# Altium footprint library Common.PcbLib: 15 footprints
Each footprint in its own frame and in the unit in brackets; x right, y up, seen from the top. Pads: shape width x height; smd on the part's side, far side on the other; paste and mask are expansions set on the pad; w line width, h text height; cw(c..) or ccw(c..) is an arc to the next point about the centre after c.
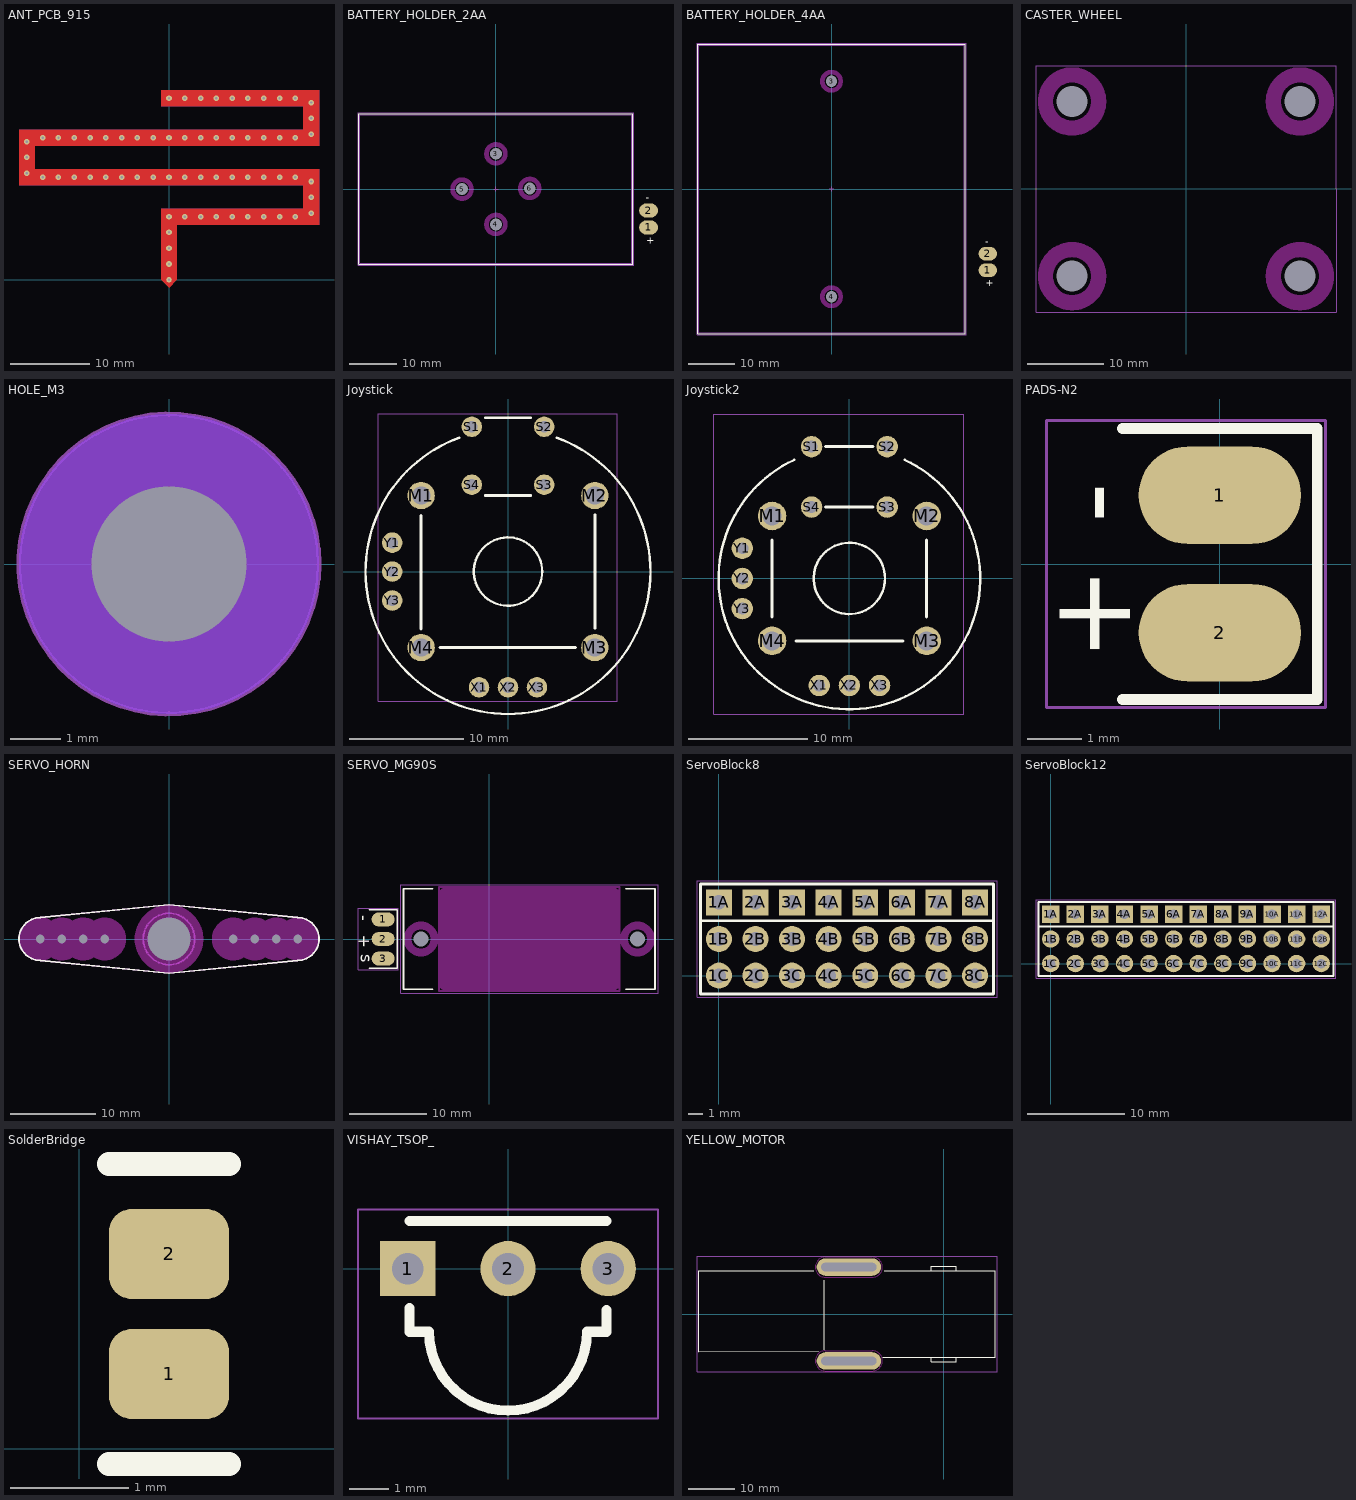
[diagram p0: the footprints below, top view; thin cyan lines are the x and y axes]

## ANT_PCB_915 [mm]
pads (1):
  round 0.7 hole 0.3 mask+0.102: 1(0,0)
via 0,6 diameter 0.7 hole 0.3
via 0,23 diameter 0.7 hole 0.3
via 2,23 diameter 0.7 hole 0.3
via 4,23 diameter 0.7 hole 0.3
via 6,23 diameter 0.7 hole 0.3
via 8,23 diameter 0.7 hole 0.3
via 10,23 diameter 0.7 hole 0.3
via 12,23 diameter 0.7 hole 0.3
via 14,23 diameter 0.7 hole 0.3
via 16,23 diameter 0.7 hole 0.3
via 18,22.45 diameter 0.7 hole 0.3
via 18,20.45 diameter 0.7 hole 0.3
via 18,18.45 diameter 0.7 hole 0.3
via 16,18 diameter 0.7 hole 0.3
via 14,18 diameter 0.7 hole 0.3
via 12,18 diameter 0.7 hole 0.3
via 10,18 diameter 0.7 hole 0.3
via 8,18 diameter 0.7 hole 0.3
via 6,18 diameter 0.7 hole 0.3
via 4,18 diameter 0.7 hole 0.3
via 2,18 diameter 0.7 hole 0.3
via 0,18 diameter 0.7 hole 0.3
via -2,18 diameter 0.7 hole 0.3
via -4,18 diameter 0.7 hole 0.3
via -6,18 diameter 0.7 hole 0.3
via -8,18 diameter 0.7 hole 0.3
via -10,18 diameter 0.7 hole 0.3
via -12,18 diameter 0.7 hole 0.3
via -14,18 diameter 0.7 hole 0.3
via -16,18 diameter 0.7 hole 0.3
via -18,17.5 diameter 0.7 hole 0.3
via -18,15.5 diameter 0.7 hole 0.3
via -18,13.5 diameter 0.7 hole 0.3
via -16,13 diameter 0.7 hole 0.3
via -14,13 diameter 0.7 hole 0.3
via -12,13 diameter 0.7 hole 0.3
via -10,13 diameter 0.7 hole 0.3
via -8,13 diameter 0.7 hole 0.3
via -6,13 diameter 0.7 hole 0.3
via -4,13 diameter 0.7 hole 0.3
via -2,13 diameter 0.7 hole 0.3
via 0,13 diameter 0.7 hole 0.3
via 2,13 diameter 0.7 hole 0.3
via 4,13 diameter 0.7 hole 0.3
via 6,13 diameter 0.7 hole 0.3
via 8,13 diameter 0.7 hole 0.3
via 10,13 diameter 0.7 hole 0.3
via 12,13 diameter 0.7 hole 0.3
via 14,13 diameter 0.7 hole 0.3
via 16,13 diameter 0.7 hole 0.3
via 18,12.45 diameter 0.7 hole 0.3
via 18,10.45 diameter 0.7 hole 0.3
via 18,8.45 diameter 0.7 hole 0.3
via 16,8 diameter 0.7 hole 0.3
via 14,8 diameter 0.7 hole 0.3
via 12,8 diameter 0.7 hole 0.3
via 10,8 diameter 0.7 hole 0.3
via 8,8 diameter 0.7 hole 0.3
via 6,8 diameter 0.7 hole 0.3
via 4,8 diameter 0.7 hole 0.3
via 2,8 diameter 0.7 hole 0.3
via 0,8 diameter 0.7 hole 0.3
via 0,4 diameter 0.7 hole 0.3
via 0,2 diameter 0.7 hole 0.3
Top Layer:
  region: 0,-1 1,0 1,7 19,7 19,14 -17,14 -17,17 19,17 19,24 -1,24 -1,22 17,22 17,19 -19,19 -19,12 17,12 17,9 -1,9 -1,0
Bottom Layer:
  region: 0,-0.4 1,0 1,7 19,7 19,14 -17,14 -17,17 19,17 19,24 -1,24 -1,22 17,22 17,19 -19,19 -19,12 17,12 17,9 -1,9 -1,0

## BATTERY_HOLDER_2AA [mm]
pads (6):
  oval 4x3 smd: 1(32.45,-8.15) 2(32.45,-4.55)
  round 2 hole 2.5: 3(0,7.5) 4(0,-7.5) 5(-7.188,0) 6(7.188,0.147)
Top Overlay:
  lines w0.2: -29.1,-15.925 29.1,-15.925 29.1,15.975 -29.1,15.975 -29.1,-15.925
  text "-" at 31.854,-2.608 h1.52
  text "+" at 31.954,-11.6 h1.52
Keep-Out Layer:
  circle w1: c0,7.5 r2
  circle w1: c7.188,0.147 r2
  circle w1: c0,-7.5 r2
  circle w1: c-7.188,0 r2
Mechanical 13:
  lines w0.05: -28.9,-15.725 -28.9,15.775 28.9,15.775 28.9,-15.725 -28.9,-15.725
Mechanical 14:
  lines w0.05: -0.5,0.025 0.5,0.025 ; 0,-0.475 0,0.525
Mechanical 15:
  lines w0.05: -29.3,-16.125 -29.3,16.175 29.3,16.175 29.3,-16.125 -29.3,-16.125
Mechanical 16:
  text ".Designator" at -3.15,-0.725 h1.5
3D body "BatteryHolder2AA.stp": height 15.2, standoff 0.2, extent -28.5,-16 28.5,16

## BATTERY_HOLDER_4AA [mm]
pads (4):
  oval 4x3 smd: 1(34.05,-17.7) 2(34.05,-14.1)
  round 2 hole 2.5: 3(0,23.475) 4(0,-23.475)
Top Overlay:
  lines w0.2: -29.1,-31.5 29.1,-31.5 29.1,31.5 -29.1,31.5 -29.1,-31.5
  text "+" at 33.554,-21.15 h1.52
  text "-" at 33.454,-12.158 h1.52
Keep-Out Layer:
  circle w1: c0,-23.475 r2
  circle w1: c0,23.475 r2
Mechanical 13:
  lines w0.05: 28.9,-15.725 28.9,15.775 ; -28.9,-31.3 -28.9,31.3 28.9,31.3 28.9,-31.3 -28.9,-31.3
Mechanical 14:
  lines w0.05: -0.5,0.025 0.5,0.025 ; 0,-0.475 0,0.525
Mechanical 15:
  lines w0.05: -29.3,-31.7 29.3,-31.7 29.3,31.7 -29.3,31.7 -29.3,-31.7
Mechanical 16:
  text ".Designator" at -3.15,-0.725 h1.5
3D body "BatteryHolder4AA.STEP": height 16, standoff 0, extent -29,-31.5 38,31.5

## CASTER_WHEEL [mm]
pads (4):
  round 0 hole 4.1 unplated: 8(-15,-11.5) 8(-15,11.5) 8(15,-11.5) 8(15,11.5)
Keep-Out Layer:
  circle w2: c15,11.5 r3.5
  circle w2: c15,-11.5 r3.5
  circle w2: c-15,11.5 r3.5
  circle w2: c-15,-11.5 r3.5
Mechanical 15:
  lines w0.05: -19.75,-16.25 19.75,-16.25 19.75,16.2 -19.75,16.2 -19.75,-16.25

## HOLE_M3 [mm]
pads (1):
  round 0 hole 3.1 unplated: ""(0,0)
Top Layer keep-out:
  circle w3: c0,0 r1.5
Bottom Layer keep-out:
  circle w3: c0,0 r1.5
Mechanical 13:
  circle w0.1: c0,0 r3
Mechanical 14:
  lines w0.05: -0.5,0 0.5,0 -0.5,0 ; 0,-0.5 0,0.5 0,-0.5
Mechanical 15:
  circle w0.05: c0,0 r3

## Joystick [mm]
pads (14):
  round 2.4 hole 1.6 mask+0.05: M1(-7.62,6.668) M2(7.62,6.668) M3(7.62,-6.668) M4(-7.62,-6.667)
  round 1.8 hole 1 mask+0.05: S1(-3.175,12.7) S2(3.175,12.7) S3(3.175,7.62) S4(-3.175,7.62) X1(-2.54,-10.16) X2(0,-10.16) X3(2.54,-10.16) Y1(-10.16,2.54) Y2(-10.16,0) Y3(-10.16,-2.54)
Top Overlay:
  circle w0.2: c0,0 r3
  lines w0.2: -4.275,11.746 ccw(c0,0) 4.275,11.746
  lines w0.254: -7.62,-5.03 -7.62,4.93 ; -5.982,-6.668 5.932,-6.668 ; -2,6.668 2,6.668 ; -2,13.5 2,13.5 ; 7.62,-4.98 7.62,4.98
Mechanical 15:
  lines w0.05: -11.4,-11.4 -11.4,13.825 9.6,13.825 9.6,-11.4 -11.4,-11.4
3D body "Joystick.STEP": height 30.23, standoff -4.44, extent -13.27,-13.311 13.4,14.311

## Joystick2 [mm]
pads (14):
  round 2.4 hole 1.6 mask+0.05: M1(-6.5,5.25) M2(6.5,5.25) M3(6.5,-5.25) M4(-6.5,-5.25)
  round 1.8 hole 1 mask+0.05: S1(-3.175,11.08) S2(3.175,11.08) S3(3.175,6) S4(-3.175,6) X1(-2.54,-9) X2(0,-9) X3(2.54,-9) Y1(-9,2.54) Y2(-9,0) Y3(-9,-2.54)
Top Overlay:
  circle w0.2: c0,0 r3
  lines w0.2: -4.649,9.969 ccw(c0,0) 4.649,9.969
  lines w0.254: -6.5,-3.25 -6.5,3.25 ; -4.5,-5.25 4.5,-5.25 ; -2,6 2,6 ; -2,11.08 2,11.08 ; 6.5,-3.25 6.5,3.25
Mechanical 15:
  lines w0.05: -11.4,-11.4 -11.4,13.825 9.6,13.825 9.6,-11.4 -11.4,-11.4
3D body "Joystick.STEP": height 30.23, standoff -4.44, extent -13.37,-12.411 13.3,15.211

## PADS-N2 [mm]
pads (2):
  oval 3x1.8 smd paste-2: 1(0,1.27) 2(0,-1.27)
Top Overlay:
  lines w0.2: -1.8,-2.5 1.8,-2.5 1.8,2.5 -1.8,2.5
  text "+" at -1.65,-1.796 h1.52
  text "-" at -1.642,0.754 h1.52
Mechanical 15:
  lines w0.05: -3.2,-2.65 -3.2,2.65 1.95,2.65 1.95,-2.65 -3.2,-2.65

## SERVO_HORN [mm]
pads (9):
  round 0 hole 1 unplated: 1(-15,0) 1(-12.5,0) 1(-10,0) 1(-7.5,0) 1(7.5,0) 1(10,0) 1(12.5,0) 1(15,0)
  round 0 hole 5 unplated: 1(0,0)
Top Overlay:
  lines w0.2: -15,-2.5 cw(c-15,0) -15,2.5 0,4 15,2.5 cw(c15,0) 15,-2.5 0,-4 -15,-2.5
Keep-Out Layer:
  circle w4: c0,0 r2
  circle w2.5: c15,0 r1.25
  circle w2.5: c12.5,0 r1.25
  circle w2.5: c10,0 r1.25
  circle w2.5: c7.5,0 r1.25
  circle w2.5: c-7.5,0 r1.25
  circle w2.5: c-10,0 r1.25
  circle w2.5: c-12.5,0 r1.25
  circle w2.5: c-15,0 r1.25
Mechanical 13:
  circle w0.2: c0,0 r3
  circle w0.2: c0,0 r1.8
  lines w0.2: -15,-2.5 cw(c-15,0) -15,2.5 0,4 15,2.5 cw(c15,0) 15,-2.5 0,-4 -15,-2.5

## SERVO_MG90S [mm]
pads (5):
  oval 3x1.8 smd paste-2: 1(-13.7,2.54) 2(-13.7,0) 3(-13.7,-2.54)
  round 1 hole 2: ""(-8.8,0) ""(19.2,0)
Top Overlay:
  lines w0.2: -15.5,-3.8 -11.9,-3.8 -11.9,3.8 -15.5,3.8
  lines w0.254: -7.3,-6.5 -11.05,-6.5 -11.05,0 -11.05,6.5 -7.3,6.5 ; 17.7,-6.5 21.45,-6.5 21.45,0 21.45,6.5 17.7,6.5
  text "s" at -16.596,-2.004 h1.52
  text "+" at -16.85,0.546 h1.52
  text "-" at -16.858,3.046 h1.52
Keep-Out Layer:
  board cut-out: -6.5,5.7 -6.5,5.798 -6.462,5.992 -6.386,6.174 -6.277,6.337 -6.137,6.477 -5.974,6.586 -5.792,6.662 -5.598,6.7 -5.5,6.7 15.9,6.7 15.998,6.7 16.192,6.662 16.374,6.586 16.537,6.477 16.677,6.337 16.786,6.174 16.862,5.992 16.9,5.798 16.9,5.7 16.9,-5.7 16.9,-5.798 16.862,-5.992 16.786,-6.174 16.677,-6.337 16.537,-6.477 16.374,-6.586 16.192,-6.662 15.998,-6.7 15.9,-6.7 -5.5,-6.7 -5.598,-6.7 -5.792,-6.662 -5.974,-6.586 -6.137,-6.477 -6.277,-6.337 -6.386,-6.174 -6.462,-5.992 -6.5,-5.798 -6.5,-5.7
Keep-Out Layer:
  circle w1: c-8.8,0 r1.75
  circle w1: c19.2,0 r1.75
  lines w0.254: -6.5,-6.7 -6.5,6.7 16.9,6.7 16.9,-6.7 -6.5,-6.7
Mechanical 15:
  lines w0.05: -16.95,-3.95 -16.95,3.95 -11.75,3.95 -11.75,-3.95 -16.95,-3.95 ; -11.4,-7 -11.4,7 21.85,7 21.85,-7 -11.4,-7
3D body "SG90MicroServo9g.STEP": height 18.33, standoff -13.7, extent -16.15,-8.4 21.35,8.3

## ServoBlock8 [mm]
pads (24):
  rect 1.8x1.8 hole 1 mask+0.05: 1A(0,5.08) 2A(2.54,5.08) 3A(5.08,5.08) 4A(7.62,5.08) 5A(10.16,5.08) 6A(12.7,5.08) 7A(15.24,5.08) 8A(17.78,5.08)
  round 1.8 hole 1 mask+0.05: 1B(0,2.54) 1C(0,0) 2B(2.54,2.54) 2C(2.54,0) 3B(5.08,2.54) 3C(5.08,0) 4B(7.62,2.54) 4C(7.62,0) 5B(10.16,2.54) 5C(10.16,0) 6B(12.7,2.54) 6C(12.7,0) 7B(15.24,2.54) 7C(15.24,0) 8B(17.78,2.54) 8C(17.78,0)
Top Overlay:
  lines w0.2: -1.27,3.81 19.05,3.81 ; -1.27,-1.27 19.05,-1.27 19.05,6.35 -1.27,6.35 -1.27,-1.27
Mechanical 13:
  lines w0.05: -1.27,-1.27 -1.27,6.35 19.05,6.35 19.05,-1.27 -1.27,-1.27
Mechanical 14:
  lines w0.05: -0.5,2.54 0.5,2.54 ; 0,2.04 0,3.04
Mechanical 15:
  lines w0.05: -1.52,-1.52 19.304,-1.52 19.304,6.6 -1.52,6.6 -1.52,-1.52
Mechanical 16:
  text ".Designator" at -0.75,5.69 h1.5
3D body "HEADER_2.54mm_01X08X8.54X11.54.STEP": height 8.54, standoff -3, extent -1.27,3.81 19.05,6.35
3D body "HEADER_2.54mm_01X08X8.54X11.54.STEP": height 8.54, standoff -3, extent -1.27,1.27 19.05,3.81
3D body "HEADER_2.54mm_01X08X8.54X11.54.STEP": height 8.54, standoff -3, extent -1.27,-1.27 19.05,1.27

## ServoBlock12 [mm]
pads (36):
  rect 1.8x1.8 hole 1 mask+0.05: 1A(0,5.08) 2A(2.54,5.08) 3A(5.08,5.08) 4A(7.62,5.08) 5A(10.16,5.08) 6A(12.7,5.08) 7A(15.24,5.08) 8A(17.78,5.08) 9A(20.32,5.08) 10A(22.86,5.08) 11A(25.4,5.08) 12A(27.94,5.08)
  round 1.8 hole 1 mask+0.05: 1B(0,2.54) 1C(0,0) 2B(2.54,2.54) 2C(2.54,0) 3B(5.08,2.54) 3C(5.08,0) 4B(7.62,2.54) 4C(7.62,0) 5B(10.16,2.54) 5C(10.16,0) 6B(12.7,2.54) 6C(12.7,0) 7B(15.24,2.54) 7C(15.24,0) 8B(17.78,2.54) 8C(17.78,0) 9B(20.32,2.54) 9C(20.32,0) 10B(22.86,2.54) 10C(22.86,0) 11B(25.4,2.54) 11C(25.4,0) 12B(27.94,2.54) 12C(27.94,0)
Top Overlay:
  lines w0.2: -1.27,3.81 29.083,3.81 ; -1.27,-1.27 -1.27,6.35 29.21,6.35 29.21,-1.27 -1.27,-1.27
Mechanical 13:
  lines w0.05: -1.27,-1.27 29.21,-1.27 29.21,6.35 -1.27,6.35 -1.27,-1.27
Mechanical 14:
  lines w0.05: -0.5,2.54 0.5,2.54 ; 0,2.04 0,3.04
Mechanical 15:
  lines w0.05: -1.52,-1.52 -1.52,6.6 29.464,6.6 29.464,-1.52 -1.52,-1.52
Mechanical 16:
  text ".Designator" at -0.75,5.69 h1.5
3D body "header2.54_2x12.STEP": height 8.54, standoff -3, extent -1.27,3.81 29.21,6.35
3D body "header2.54_2x12.STEP": height 8.54, standoff -3, extent -1.27,1.27 29.21,3.81
3D body "header2.54_2x12.STEP": height 8.54, standoff -3, extent -1.27,-1.27 29.21,1.27

## SolderBridge [mil]
pads (2):
  rrect50% 40x30 smd paste-20 mask+4: 1(30,25)
  rrect50% 40x30 smd paste-20: 2(30,65)
Top Overlay:
  lines w7.87: 10,-5 50,-5 ; 10,95 50,95

## VISHAY_TSOP_ [mm]
pads (3):
  rect 1.4x1.4 hole 0.8 mask+0.05: 1(-2.54,0)
  round 1.4 hole 0.8 mask+0.05: 2(0,0) 3(2.54,0)
Top Overlay:
  lines w0.254: -2.5,-1 -2.5,-1.6 -2,-1.6 ccw(c0,-1.6) 2,-1.6 2.5,-1.6 2.5,-1.05 ; -2.5,1.2 2.5,1.2
Mechanical 15:
  lines w0.05: -3.8,-3.8 3.8,-3.8 3.8,1.5 -3.8,1.5 -3.8,-3.8
3D body "IC_Vishay_TSOP38338_eec.STEP": height 9.76, standoff -2.92, extent -2.84,-3.418 2.84,1.412

## YELLOW_MOTOR [mm]
pads (2):
  oval 14x3.8 hole 1.8 slot 12 at 0 deg unplated: ""(-20.65,-10.2) ""(-20.65,10.2)
Top Overlay:
  lines w0.254: -28.3,9.35 -53.3,9.35 -53.3,-8.15 -27.25,-8.15 ; -26,-7.75 -26,7.35 ; -13.3,-9.35 0,-9.35 11.2,-9.35 11.2,9.35 0,9.35 -13,9.35 ; -2.7,-9.35 -2.7,-10.35 2.7,-10.35 2.7,-9.35 ; -2.7,9.35 -2.7,10.35 2.7,10.35 2.7,9.35
Keep-Out Layer:
  lines w0.2: -25.75,-12.4 cw(c-25.75,-10.2) -25.75,-8 -15.55,-8 cw(c-15.55,-10.2) -15.55,-12.4 -25.75,-12.4 ; -25.75,8 cw(c-25.75,10.2) -25.75,12.4 -15.55,12.4 cw(c-15.55,10.2) -15.55,8 -25.75,8
Mechanical 15:
  lines w0.05: -53.65,-12.6 -53.65,12.6 11.55,12.6 11.55,-12.6 -53.65,-12.6
3D body "YellowMotor.step": height 22.75, standoff 0.25, extent -54,-18.4 16.2,18.4